# EAGLE library part LM358ST (library ecad(1))
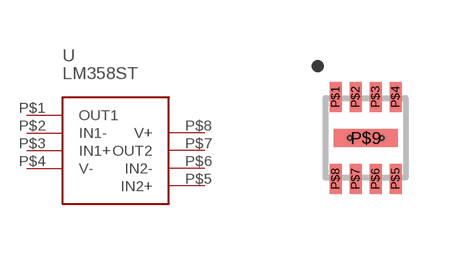
[diagram p0: symbol with the pads of DFN8; footprint DFN8]

Designator prefix U

## LM358ST  [DFN8]
P$1  OUT1  pas
P$2  IN1-  pas
P$3  IN1+  pas
P$4  V-  pas
P$5  IN2+  pas
P$6  IN2-  pas
P$7  OUT2  pas
P$8  V+  pas

## Footprint DFN8 (pad centres in mm)
smd 0.3 x 0.75: P$1 -0.75,1.025; P$2 -0.25,1.025; P$3 0.25,1.025; P$4 0.75,1.025; P$5 0.75,-1.025; P$6 0.25,-1.025; P$7 -0.25,-1.025; P$8 -0.75,-1.025
smd 1.6 x 0.45: P$9 0,0
hole 0.1 at -0.4,0
hole 0.1 at 0.4,0